# Altium integrated library EPCOS Inductor.IntLib: 21 symbols
Pins are listed as number, name and electrical type; pins without a type are passive.

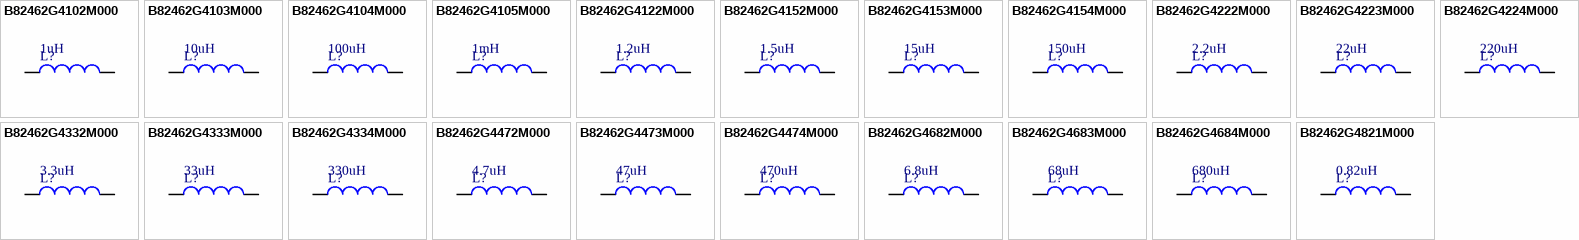
[diagram p0: symbols B82462G4102M000 to B82462G4821M000]

## B82462G4102M000
designator L?  value 1uH
SMT Power Inductor; Size 6.3×6.3×3.0mm, ±20% Tolerance, 1uH, 3.4A; PCB_Layout: Complies with manufacturer's recommendation.; Published: 26-Sep-2008; DatasheetVersion: Mar-2008; PackageVersion: Mar-2008; PackageReference: B82462G4; Publisher: Altium Limited; PackageDescription: SM Power Inductor; 2 Leads; Body 6.3 x 6.3 x 3.0 mm (LxWxH); ComponentLink1Description: Manufacturer Link; ComponentLink1URL: http://www.epcos.com/; ComponentLink2Description: Datasheet; ComponentLink2URL: http://www.epcos.com/inf/30/db/ind_2008/b82462g4.pdf
footprint B82462G4 (SM Inductor; 2 Leads; Body 6.3x6.3mm (LxW))
simulation model INDUCTOR (Inductor)
signal-integrity model Inductor
pins: 1, 2

## B82462G4103M000
designator L?  value 10uH
SMT Power Inductor; Size 6.3×6.3×3.0mm, ±20% Tolerance, 10uH, 1.5A; PCB_Layout: Complies with manufacturer's recommendation.; Published: 26-Sep-2008; DatasheetVersion: Mar-2008; PackageVersion: Mar-2008; PackageReference: B82462G4; Publisher: Altium Limited; PackageDescription: SM Power Inductor; 2 Leads; Body 6.3 x 6.3 x 3.0 mm (LxWxH); ComponentLink1Description: Manufacturer Link; ComponentLink1URL: http://www.epcos.com/; ComponentLink2Description: Datasheet; ComponentLink2URL: http://www.epcos.com/inf/30/db/ind_2008/b82462g4.pdf
footprint B82462G4 (SM Inductor; 2 Leads; Body 6.3x6.3mm (LxW))
simulation model INDUCTOR (Inductor)
signal-integrity model Inductor
pins: 1, 2

## B82462G4104M000
designator L?  value 100uH
SMT Power Inductor; Size 6.3×6.3×3.0mm, ±20% Tolerance, 100uH, 0.53A; PCB_Layout: Complies with manufacturer's recommendation.; Published: 26-Sep-2008; DatasheetVersion: Mar-2008; PackageVersion: Mar-2008; PackageReference: B82462G4; Publisher: Altium Limited; PackageDescription: SM Power Inductor; 2 Leads; Body 6.3 x 6.3 x 3.0 mm (LxWxH); ComponentLink1Description: Manufacturer Link; ComponentLink1URL: http://www.epcos.com/; ComponentLink2Description: Datasheet; ComponentLink2URL: http://www.epcos.com/inf/30/db/ind_2008/b82462g4.pdf
footprint B82462G4 (SM Inductor; 2 Leads; Body 6.3x6.3mm (LxW))
simulation model INDUCTOR (Inductor)
signal-integrity model Inductor
pins: 1, 2

## B82462G4105M000
designator L?  value 1mH
SMT Power Inductor; Size 6.3×6.3×3.0mm, ±20% Tolerance, 1mH, 0.16A; PCB_Layout: Complies with manufacturer's recommendation.; Published: 26-Sep-2008; DatasheetVersion: Mar-2008; PackageVersion: Mar-2008; PackageReference: B82462G4; Publisher: Altium Limited; PackageDescription: SM Power Inductor; 2 Leads; Body 6.3 x 6.3 x 3.0 mm (LxWxH); ComponentLink1Description: Manufacturer Link; ComponentLink1URL: http://www.epcos.com/; ComponentLink2Description: Datasheet; ComponentLink2URL: http://www.epcos.com/inf/30/db/ind_2008/b82462g4.pdf
footprint B82462G4 (SM Inductor; 2 Leads; Body 6.3x6.3mm (LxW))
simulation model INDUCTOR (Inductor)
signal-integrity model Inductor
pins: 1, 2

## B82462G4122M000
designator L?  value 1.2uH
SMT Power Inductor; Size 6.3×6.3×3.0mm, ±20% Tolerance, 1.2uH, 3.25A; PCB_Layout: Complies with manufacturer's recommendation.; Published: 26-Sep-2008; DatasheetVersion: Mar-2008; PackageVersion: Mar-2008; PackageReference: B82462G4; Publisher: Altium Limited; PackageDescription: SM Power Inductor; 2 Leads; Body 6.3 x 6.3 x 3.0 mm (LxWxH); ComponentLink1Description: Manufacturer Link; ComponentLink1URL: http://www.epcos.com/; ComponentLink2Description: Datasheet; ComponentLink2URL: http://www.epcos.com/inf/30/db/ind_2008/b82462g4.pdf
footprint B82462G4 (SM Inductor; 2 Leads; Body 6.3x6.3mm (LxW))
simulation model INDUCTOR (Inductor)
signal-integrity model Inductor
pins: 1, 2

## B82462G4152M000
designator L?  value 1.5uH
SMT Power Inductor; Size 6.3×6.3×3.0mm, ±20% Tolerance, 1.5uH, 3.1A; PCB_Layout: Complies with manufacturer's recommendation.; Published: 26-Sep-2008; DatasheetVersion: Mar-2008; PackageVersion: Mar-2008; PackageReference: B82462G4; Publisher: Altium Limited; PackageDescription: SM Power Inductor; 2 Leads; Body 6.3 x 6.3 x 3.0 mm (LxWxH); ComponentLink1Description: Manufacturer Link; ComponentLink1URL: http://www.epcos.com/; ComponentLink2Description: Datasheet; ComponentLink2URL: http://www.epcos.com/inf/30/db/ind_2008/b82462g4.pdf
footprint B82462G4 (SM Inductor; 2 Leads; Body 6.3x6.3mm (LxW))
simulation model INDUCTOR (Inductor)
signal-integrity model Inductor
pins: 1, 2

## B82462G4153M000
designator L?  value 15uH
SMT Power Inductor; Size 6.3×6.3×3.0mm, ±20% Tolerance, 15uH, 1.25A; PCB_Layout: Complies with manufacturer's recommendation.; Published: 26-Sep-2008; DatasheetVersion: Mar-2008; PackageVersion: Mar-2008; PackageReference: B82462G4; Publisher: Altium Limited; PackageDescription: SM Power Inductor; 2 Leads; Body 6.3 x 6.3 x 3.0 mm (LxWxH); ComponentLink1Description: Manufacturer Link; ComponentLink1URL: http://www.epcos.com/; ComponentLink2Description: Datasheet; ComponentLink2URL: http://www.epcos.com/inf/30/db/ind_2008/b82462g4.pdf
footprint B82462G4 (SM Inductor; 2 Leads; Body 6.3x6.3mm (LxW))
simulation model INDUCTOR (Inductor)
signal-integrity model Inductor
pins: 1, 2

## B82462G4154M000
designator L?  value 150uH
SMT Power Inductor; Size 6.3×6.3×3.0mm, ±20% Tolerance, 150uH, 0.38A; PCB_Layout: Complies with manufacturer's recommendation.; Published: 26-Sep-2008; DatasheetVersion: Mar-2008; PackageVersion: Mar-2008; PackageReference: B82462G4; Publisher: Altium Limited; PackageDescription: SM Power Inductor; 2 Leads; Body 6.3 x 6.3 x 3.0 mm (LxWxH); ComponentLink1Description: Manufacturer Link; ComponentLink1URL: http://www.epcos.com/; ComponentLink2Description: Datasheet; ComponentLink2URL: http://www.epcos.com/inf/30/db/ind_2008/b82462g4.pdf
footprint B82462G4 (SM Inductor; 2 Leads; Body 6.3x6.3mm (LxW))
simulation model INDUCTOR (Inductor)
signal-integrity model Inductor
pins: 1, 2

## B82462G4222M000
designator L?  value 2.2uH
SMT Power Inductor; Size 6.3×6.3×3.0mm, ±20% Tolerance, 2.2uH, 2.55A; PCB_Layout: Complies with manufacturer's recommendation.; Published: 26-Sep-2008; DatasheetVersion: Mar-2008; PackageVersion: Mar-2008; PackageReference: B82462G4; Publisher: Altium Limited; PackageDescription: SM Power Inductor; 2 Leads; Body 6.3 x 6.3 x 3.0 mm (LxWxH); ComponentLink1Description: Manufacturer Link; ComponentLink1URL: http://www.epcos.com/; ComponentLink2Description: Datasheet; ComponentLink2URL: http://www.epcos.com/inf/30/db/ind_2008/b82462g4.pdf
footprint B82462G4 (SM Inductor; 2 Leads; Body 6.3x6.3mm (LxW))
simulation model INDUCTOR (Inductor)
signal-integrity model Inductor
pins: 1, 2

## B82462G4223M000
designator L?  value 22uH
SMT Power Inductor; Size 6.3×6.3×3.0mm, ±20% Tolerance, 22uH, 1.05A; PCB_Layout: Complies with manufacturer's recommendation.; Published: 26-Sep-2008; DatasheetVersion: Mar-2008; PackageVersion: Mar-2008; PackageReference: B82462G4; Publisher: Altium Limited; PackageDescription: SM Power Inductor; 2 Leads; Body 6.3 x 6.3 x 3.0 mm (LxWxH); ComponentLink1Description: Manufacturer Link; ComponentLink1URL: http://www.epcos.com/; ComponentLink2Description: Datasheet; ComponentLink2URL: http://www.epcos.com/inf/30/db/ind_2008/b82462g4.pdf
footprint B82462G4 (SM Inductor; 2 Leads; Body 6.3x6.3mm (LxW))
simulation model INDUCTOR (Inductor)
signal-integrity model Inductor
pins: 1, 2

## B82462G4224M000
designator L?  value 220uH
SMT Power Inductor; Size 6.3×6.3×3.0mm, ±20% Tolerance, 220uH, 0.35A; PCB_Layout: Complies with manufacturer's recommendation.; Published: 26-Sep-2008; DatasheetVersion: Mar-2008; PackageVersion: Mar-2008; PackageReference: B82462G4; Publisher: Altium Limited; PackageDescription: SM Power Inductor; 2 Leads; Body 6.3 x 6.3 x 3.0 mm (LxWxH); ComponentLink1Description: Manufacturer Link; ComponentLink1URL: http://www.epcos.com/; ComponentLink2Description: Datasheet; ComponentLink2URL: http://www.epcos.com/inf/30/db/ind_2008/b82462g4.pdf
footprint B82462G4 (SM Inductor; 2 Leads; Body 6.3x6.3mm (LxW))
simulation model INDUCTOR (Inductor)
signal-integrity model Inductor
pins: 1, 2

## B82462G4332M000
designator L?  value 3.3uH
SMT Power Inductor; Size 6.3×6.3×3.0mm, ±20% Tolerance, 3.3uH, 2.3A; PCB_Layout: Complies with manufacturer's recommendation.; Published: 26-Sep-2008; DatasheetVersion: Mar-2008; PackageVersion: Mar-2008; PackageReference: B82462G4; Publisher: Altium Limited; PackageDescription: SM Power Inductor; 2 Leads; Body 6.3 x 6.3 x 3.0 mm (LxWxH); ComponentLink1Description: Manufacturer Link; ComponentLink1URL: http://www.epcos.com/; ComponentLink2Description: Datasheet; ComponentLink2URL: http://www.epcos.com/inf/30/db/ind_2008/b82462g4.pdf
footprint B82462G4 (SM Inductor; 2 Leads; Body 6.3x6.3mm (LxW))
simulation model INDUCTOR (Inductor)
signal-integrity model Inductor
pins: 1, 2

## B82462G4333M000
designator L?  value 33uH
SMT Power Inductor; Size 6.3×6.3×3.0mm, ±20% Tolerance, 33uH, 0.85A; PCB_Layout: Complies with manufacturer's recommendation.; Published: 26-Sep-2008; DatasheetVersion: Mar-2008; PackageVersion: Mar-2008; PackageReference: B82462G4; Publisher: Altium Limited; PackageDescription: SM Power Inductor; 2 Leads; Body 6.3 x 6.3 x 3.0 mm (LxWxH); ComponentLink1Description: Manufacturer Link; ComponentLink1URL: http://www.epcos.com/; ComponentLink2Description: Datasheet; ComponentLink2URL: http://www.epcos.com/inf/30/db/ind_2008/b82462g4.pdf
footprint B82462G4 (SM Inductor; 2 Leads; Body 6.3x6.3mm (LxW))
simulation model INDUCTOR (Inductor)
signal-integrity model Inductor
pins: 1, 2

## B82462G4334M000
designator L?  value 330uH
SMT Power Inductor; Size 6.3×6.3×3.0mm, ±20% Tolerance, 330uH, 0.27A; PCB_Layout: Complies with manufacturer's recommendation.; Published: 26-Sep-2008; DatasheetVersion: Mar-2008; PackageVersion: Mar-2008; PackageReference: B82462G4; Publisher: Altium Limited; PackageDescription: SM Power Inductor; 2 Leads; Body 6.3 x 6.3 x 3.0 mm (LxWxH); ComponentLink1Description: Manufacturer Link; ComponentLink1URL: http://www.epcos.com/; ComponentLink2Description: Datasheet; ComponentLink2URL: http://www.epcos.com/inf/30/db/ind_2008/b82462g4.pdf
footprint B82462G4 (SM Inductor; 2 Leads; Body 6.3x6.3mm (LxW))
simulation model INDUCTOR (Inductor)
signal-integrity model Inductor
pins: 1, 2

## B82462G4472M000
designator L?  value 4.7uH
SMT Power Inductor; Size 6.3×6.3×3.0mm, ±20% Tolerance, 4.7uH, 2A; PCB_Layout: Complies with manufacturer's recommendation.; Published: 26-Sep-2008; DatasheetVersion: Mar-2008; PackageVersion: Mar-2008; PackageReference: B82462G4; Publisher: Altium Limited; PackageDescription: SM Power Inductor; 2 Leads; Body 6.3 x 6.3 x 3.0 mm (LxWxH); ComponentLink1Description: Manufacturer Link; ComponentLink1URL: http://www.epcos.com/; ComponentLink2Description: Datasheet; ComponentLink2URL: http://www.epcos.com/inf/30/db/ind_2008/b82462g4.pdf
footprint B82462G4 (SM Inductor; 2 Leads; Body 6.3x6.3mm (LxW))
simulation model INDUCTOR (Inductor)
signal-integrity model Inductor
pins: 1, 2

## B82462G4473M000
designator L?  value 47uH
SMT Power Inductor; Size 6.3×6.3×3.0mm, ±20% Tolerance, 47uH, 0.75A; PCB_Layout: Complies with manufacturer's recommendation.; Published: 26-Sep-2008; DatasheetVersion: Mar-2008; PackageVersion: Mar-2008; PackageReference: B82462G4; Publisher: Altium Limited; PackageDescription: SM Power Inductor; 2 Leads; Body 6.3 x 6.3 x 3.0 mm (LxWxH); ComponentLink1Description: Manufacturer Link; ComponentLink1URL: http://www.epcos.com/; ComponentLink2Description: Datasheet; ComponentLink2URL: http://www.epcos.com/inf/30/db/ind_2008/b82462g4.pdf
footprint B82462G4 (SM Inductor; 2 Leads; Body 6.3x6.3mm (LxW))
simulation model INDUCTOR (Inductor)
signal-integrity model Inductor
pins: 1, 2

## B82462G4474M000
designator L?  value 470uH
SMT Power Inductor; Size 6.3×6.3×3.0mm, ±20% Tolerance, 470uH, 0.24A; PCB_Layout: Complies with manufacturer's recommendation.; Published: 26-Sep-2008; DatasheetVersion: Mar-2008; PackageVersion: Mar-2008; PackageReference: B82462G4; Publisher: Altium Limited; PackageDescription: SM Power Inductor; 2 Leads; Body 6.3 x 6.3 x 3.0 mm (LxWxH); ComponentLink1Description: Manufacturer Link; ComponentLink1URL: http://www.epcos.com/; ComponentLink2Description: Datasheet; ComponentLink2URL: http://www.epcos.com/inf/30/db/ind_2008/b82462g4.pdf
footprint B82462G4 (SM Inductor; 2 Leads; Body 6.3x6.3mm (LxW))
simulation model INDUCTOR (Inductor)
signal-integrity model Inductor
pins: 1, 2

## B82462G4682M000
designator L?  value 6.8uH
SMT Power Inductor; Size 6.3×6.3×3.0mm, ±20% Tolerance, 6.8uH, 1.65A; PCB_Layout: Complies with manufacturer's recommendation.; Published: 26-Sep-2008; DatasheetVersion: Mar-2008; PackageVersion: Mar-2008; PackageReference: B82462G4; Publisher: Altium Limited; PackageDescription: SM Power Inductor; 2 Leads; Body 6.3 x 6.3 x 3.0 mm (LxWxH); ComponentLink1Description: Manufacturer Link; ComponentLink1URL: http://www.epcos.com/; ComponentLink2Description: Datasheet; ComponentLink2URL: http://www.epcos.com/inf/30/db/ind_2008/b82462g4.pdf
footprint B82462G4 (SM Inductor; 2 Leads; Body 6.3x6.3mm (LxW))
simulation model INDUCTOR (Inductor)
signal-integrity model Inductor
pins: 1, 2

## B82462G4683M000
designator L?  value 68uH
SMT Power Inductor; Size 6.3×6.3×3.0mm, ±20% Tolerance, 68uH, 0.65A; PCB_Layout: Complies with manufacturer's recommendation.; Published: 26-Sep-2008; DatasheetVersion: Mar-2008; PackageVersion: Mar-2008; PackageReference: B82462G4; Publisher: Altium Limited; PackageDescription: SM Power Inductor; 2 Leads; Body 6.3 x 6.3 x 3.0 mm (LxWxH); ComponentLink1Description: Manufacturer Link; ComponentLink1URL: http://www.epcos.com/; ComponentLink2Description: Datasheet; ComponentLink2URL: http://www.epcos.com/inf/30/db/ind_2008/b82462g4.pdf
footprint B82462G4 (SM Inductor; 2 Leads; Body 6.3x6.3mm (LxW))
simulation model INDUCTOR (Inductor)
signal-integrity model Inductor
pins: 1, 2

## B82462G4684M000
designator L?  value 680uH
SMT Power Inductor; Size 6.3×6.3×3.0mm, ±20% Tolerance, 680uH, 0.2A; PCB_Layout: Complies with manufacturer's recommendation.; Published: 26-Sep-2008; DatasheetVersion: Mar-2008; PackageVersion: Mar-2008; PackageReference: B82462G4; Publisher: Altium Limited; PackageDescription: SM Power Inductor; 2 Leads; Body 6.3 x 6.3 x 3.0 mm (LxWxH); ComponentLink1Description: Manufacturer Link; ComponentLink1URL: http://www.epcos.com/; ComponentLink2Description: Datasheet; ComponentLink2URL: http://www.epcos.com/inf/30/db/ind_2008/b82462g4.pdf
footprint B82462G4 (SM Inductor; 2 Leads; Body 6.3x6.3mm (LxW))
simulation model INDUCTOR (Inductor)
signal-integrity model Inductor
pins: 1, 2

## B82462G4821M000
designator L?  value 0.82uH
SMT Power Inductor; Size 6.3×6.3×3.0mm, ±20% Tolerance, 0.82uH, 3.45A; PCB_Layout: Complies with manufacturer's recommendation.; Published: 26-Sep-2008; DatasheetVersion: Mar-2008; PackageVersion: Mar-2008; PackageReference: B82462G4; Publisher: Altium Limited; PackageDescription: SM Power Inductor; 2 Leads; Body 6.3 x 6.3 x 3.0 mm (LxWxH); ComponentLink1Description: Manufacturer Link; ComponentLink1URL: http://www.epcos.com/; ComponentLink2Description: Datasheet; ComponentLink2URL: http://www.epcos.com/inf/30/db/ind_2008/b82462g4.pdf
footprint B82462G4 (SM Inductor; 2 Leads; Body 6.3x6.3mm (LxW))
simulation model INDUCTOR (Inductor)
signal-integrity model Inductor
pins: 1, 2